# EAGLE library part EEV-FK2A101V (library EEV-FK2A101V)
Aluminium Electroyltic Capacitor, Radial, Vibration-Proof Source: Datasheet <http://industrial.panasonic.com/cdbs/www-data/pdf/RDE0000/ABA0000C1181.pdf>
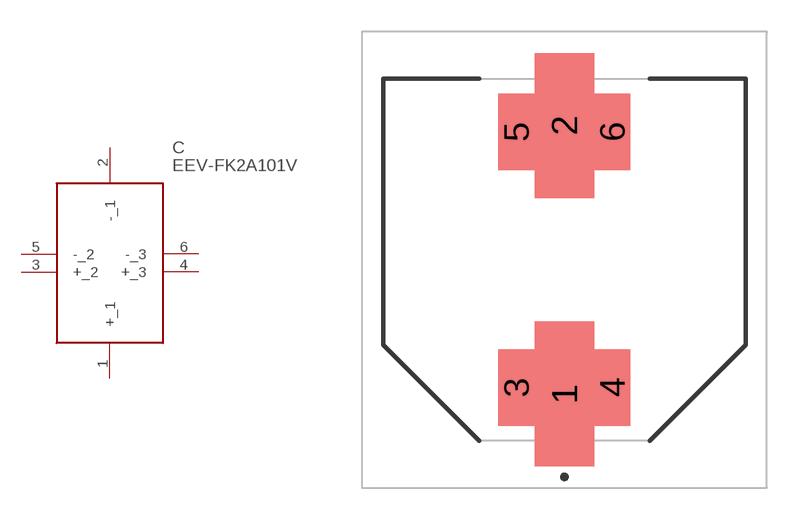
[diagram p0: symbol with the pads of EEEFK0J682AV; footprint EEEFK0J682AV]

Designator prefix C

## EEV-FK2A101V (Description: Aluminium Electroyltic Capacitor, Radial, Vibration-Proof; Height: 16.8mm; Manufacturer_Name: Panasonic; Manufacturer_Part_Number: EEV-FK2A101V; Mouser_Part_Number: 667-EEV-FK2A101V; Mouser_Price-Stock: https://www.mouser.co.uk/ProductDetail/Panasonic/EEV-FK2A101V?qs=MtOUKumLmnaVkoWQWMGNWA%3D%3D)  [EEEFK0J682AV]
1  +_1
2  -_1
3  +_2
4  +_3
5  -_2
6  -_3

## Footprint EEEFK0J682AV (pad centres in mm)
VibrationProof_J16
smd 2.8 x 6.8: 1 0,-6.3; 2 0,6.3
smd 1.7 x 3.6: 3 -2.25,-6; 4 2.25,-6; 5 -2.25,6; 6 2.25,6